# Altium schematic symbol library TLV07IDR.SchLib: 1 symbol
Pins are listed as number, name and electrical type; pins without a type are passive.

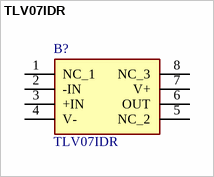
[diagram p0: symbol TLV07IDR]

## TLV07IDR
designator B?
36-V Precision, Rail-to-Rail Output, Operational Amplifier; Manufacturer_Name: Texas Instruments; Geometry.Height: 1.75mm; Mouser Part Number: 595-TLV07IDR; Mouser Price/Stock: https://www.mouser.co.uk/ProductDetail/Texas-Instruments/TLV07IDR?qs=EU6FO9ffTweu%2FaLhAoRzmg%3D%3D; Manufacturer_Part_Number: TLV07IDR; Datasheet Link: http://www.ti.com/lit/gpn/tlv07
footprint SOIC127P600X175-8N
pins: 1 NC_1, 2 -IN, 3 +IN, 4 V-, 5 NC_2, 6 OUT, 7 V+, 8 NC_3